# Altium footprint library Imported_Components.PcbLib: 32 footprints (part 2 of 2)
Each footprint in its own frame and in the unit in brackets; x right, y up, seen from the top. Pads: shape width x height; smd on the part's side, far side on the other; paste and mask are expansions set on the pad; w line width, h text height; cw(c..) or ccw(c..) is an arc to the next point about the centre after c.
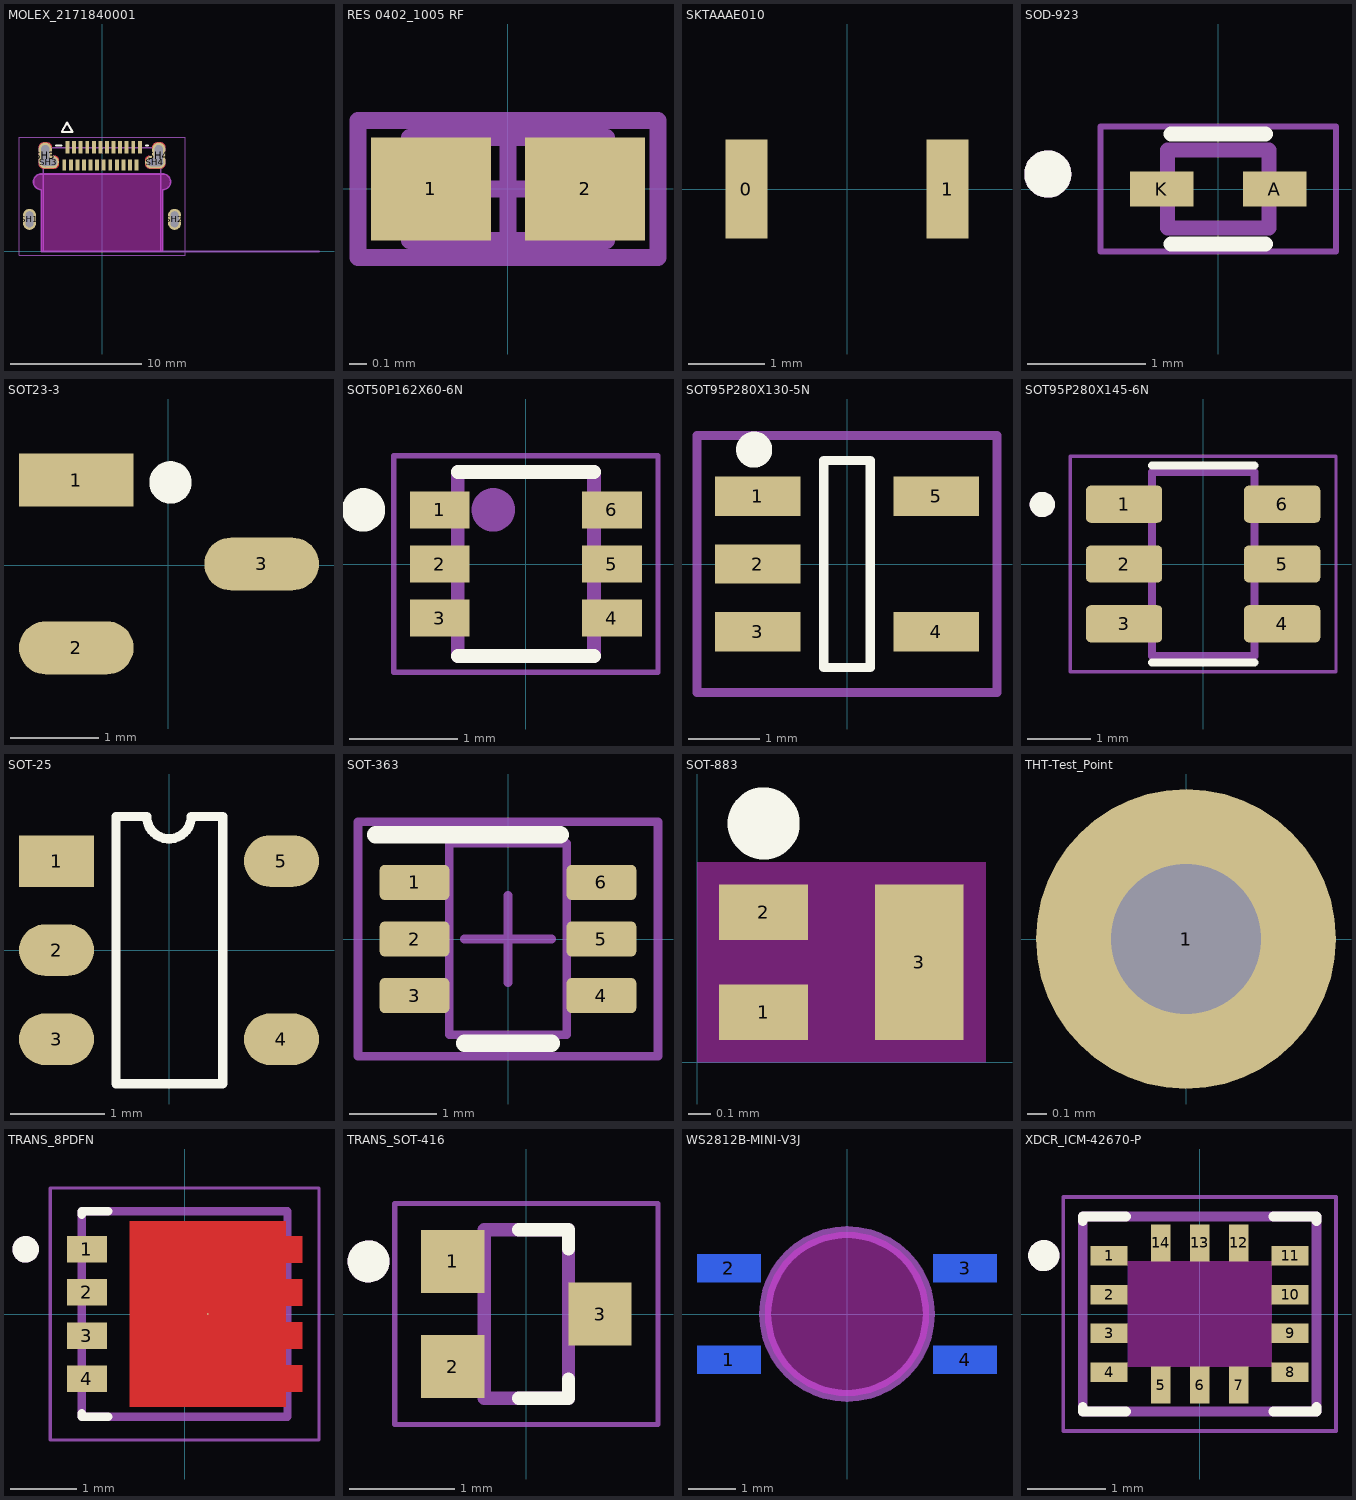
[diagram p1: the footprints below, top view; thin cyan lines are the x and y axes]

## MOLEX_2171840001 [mm]
height 3.16
pads (30):
  rect 0.298x0.95 smd mask+0.064: A1(-2.625,7.925) A2(-2.125,7.925) A3(-1.625,7.925) A4(-1.125,7.925) A5(-0.625,7.925) A6(-0.125,7.925) A7(0.375,7.925) A8(0.875,7.925) A9(1.375,7.925) A10(1.875,7.925) A11(2.375,7.925) A12(2.875,7.925)
  rect 0.298x0.85 smd mask+0.064: B1(2.625,6.575) B2(2.125,6.575) B3(1.625,6.575) B4(1.125,6.575) B5(0.625,6.575) B6(0.125,6.575) B7(-0.375,6.575) B8(-0.875,6.575) B9(-1.375,6.575) B10(-1.875,6.575) B11(-2.375,6.575) B12(-2.875,6.575)
  oval 1x1.6 hole 0.6 slot 1.2 at 90 deg mask+0.064: SH1(-5.52,2.45) SH2(5.52,2.45)
  oval 1x2 hole 0.6 slot 1.6 at 90 deg mask+0.064: SH3(-4.32,7.3) SH4(4.32,7.3)
  oval 1.54x1 hole 0.6 slot 1.2 at 0 deg mask+0.064: SH3(-4.052,6.808) SH4(4.048,6.797)
Top Layer:
  region: 183 vertices and 0 holes, not listed, extent 3.28,6.3 4.82,8.3
  region: 183 vertices and 0 holes, not listed, extent -4.82,6.3 -3.28,8.3
Bottom Layer:
  region: 183 vertices and 0 holes, not listed, extent -4.82,6.3 -3.28,8.3
  region: 183 vertices and 0 holes, not listed, extent 3.28,6.3 4.82,8.3
Top Overlay:
  lines w0.15: -3.507,8.05 -3.089,8.05 ; 3.338,8.05 3.507,8.05 ; -3.059,9.111 -2.659,9.811 -2.259,9.111 -3.059,9.111
Top Solder:
  drawing of 2 lines, arcs and shapes, not listed
Bottom Solder:
  drawing of 2 lines, arcs and shapes, not listed
Keep-Out Layer:
  board cut-out: 4.62,5.9 -4.62,5.9 -4.651,5.899 -4.683,5.897 -4.714,5.893 -4.745,5.887 -4.775,5.88 -4.805,5.871 -4.835,5.86 -4.864,5.848 -4.892,5.835 -4.92,5.82 -4.947,5.803 -4.973,5.785 -4.998,5.766 -5.021,5.746 -5.044,5.724 -5.066,5.701 -5.086,5.678 -5.105,5.653 -5.123,5.627 -5.14,5.6 -5.155,5.572 -5.168,5.544 -5.18,5.515 -5.191,5.485 -5.2,5.455 -5.207,5.425 -5.213,5.394 -5.217,5.363 -5.219,5.331 -5.22,5.3 -5.219,5.269 -5.217,5.237 -5.213,5.206 -5.207,5.175 -5.2,5.145 -5.191,5.115 -5.18,5.085 -5.168,5.056 -5.155,5.028 -5.14,5 -5.123,4.973 -5.105,4.947 -5.086,4.922 -5.066,4.899 -5.044,4.876 -5.021,4.854 -4.998,4.834 -4.973,4.815 -4.947,4.797 -4.92,4.78 -4.892,4.765 -4.864,4.752 -4.835,4.74 -4.805,4.729 -4.775,4.72 -4.745,4.713 -4.714,4.707 -4.683,4.703 -4.651,4.701 -4.62,4.7 -4.62,0 4.62,0 4.62,4.7 4.651,4.701 4.683,4.703 4.714,4.707 4.745,4.713 4.775,4.72 4.805,4.729 4.835,4.74 4.864,4.752 4.892,4.765 4.92,4.78 4.947,4.797 4.973,4.815 4.998,4.834 5.021,4.854 5.044,4.876 5.066,4.899 5.086,4.922 5.105,4.947 5.123,4.973 5.14,5 5.155,5.028 5.168,5.056 5.18,5.085 5.191,5.115 5.2,5.145 5.207,5.175 5.213,5.206 5.217,5.237 5.219,5.269 5.22,5.3 5.219,5.331 5.217,5.363 5.213,5.394 5.207,5.425 5.2,5.455 5.191,5.485 5.18,5.515 5.168,5.544 5.155,5.572 5.14,5.6 5.123,5.627 5.105,5.653 5.086,5.678 5.066,5.701 5.044,5.724 5.021,5.746 4.998,5.766 4.973,5.785 4.947,5.803 4.92,5.82 4.892,5.835 4.864,5.848 4.835,5.86 4.805,5.871 4.775,5.88 4.745,5.887 4.714,5.893 4.683,5.897 4.651,5.899
Mechanical 1:
  lines w0: -4.62,6.7 ccw(c-4.42,6.7) -4.42,6.5 -3.62,6.5 ccw(c-3.62,6.7) -3.42,6.7 -3.42,6.9 ccw(c-3.62,6.9) -3.62,7.1 -3.79,7.1 cw(c-3.79,7.33) -4.02,7.33 -4.02,7.9 ccw(c-4.22,7.9) -4.22,8.1 -4.42,8.1 ccw(c-4.42,7.9) -4.62,7.9 -4.62,6.7 ; 3.42,6.7 ccw(c3.62,6.7) 3.62,6.5 4.42,6.5 ccw(c4.42,6.7) 4.62,6.7 4.62,7.9 ccw(c4.42,7.9) 4.42,8.1 4.22,8.1 ccw(c4.22,7.9) 4.02,7.9 4.02,7.33 cw(c3.79,7.33) 3.79,7.1 3.62,7.1 ccw(c3.62,6.9) 3.42,6.9 3.42,6.7
Mechanical 2:
  text "'.Designator'" at 0,4.755 h0.7
Mechanical 12:
  text "PTH L-shaped Slot 1.2 +/- 0.05 X 1.6 +/- 0.05" at -6.25,12.186 h0.5
  text "PTH Slot 1.2 +/- 0.05 X 0.6 +/- 0.05" at -6.25,13.105 h0.5
Mechanical 13:
  lines w0.13: 16.51,0 4.62,0 ; -4.47,0 -4.62,0 -4.62,4.7 cw(c-4.62,5.3) -5.22,5.3 cw(c-4.62,5.3) -4.62,5.9 4.62,5.9 cw(c4.62,5.3) 5.22,5.3 cw(c4.62,5.3) 4.62,4.7 4.62,0 ; -4.47,0 -4.47,7.9 4.47,7.9 4.47,0 ; -4.47,0 4.47,0 ; 4.47,0 4.62,0 ; -3.059,9.111 -2.659,9.811 -2.259,9.111 -3.059,9.111
  text "BOARD CUTOUT" at -3.302,2.78 h0.61
  text "PCB EDGE" at 6.985,0.228 h1.27
Mechanical 15:
  lines w0.01: -6.32,-0.3 -6.32,8.7 6.32,8.7 6.32,-0.3 -6.32,-0.3
3D body "(USB-C)2171840001.step": height 2.36, standoff -0.8, extent -5.67,0 5.67,8.1

## RES 0402_1005 RF [mm] "Chip Resistor, 2-Leads, Body 1.0x0.5mm, IPC High Density"
height 0.4
pads (2):
  rect 0.7x0.6 smd: 1(-0.45,0) 2(0.45,0)
Mechanical 13:
  lines w0.1: -0.575,-0.3 0.575,-0.3 0.575,0.3 -0.575,0.3 -0.575,-0.3
Mechanical 15:
  lines w0.1: -0.3,0 0.3,0 ; 0,-0.3 0,0.3 ; -0.875,-0.4 0.875,-0.4 0.875,0.4 -0.875,0.4 -0.875,-0.4
3D body "0402 resistor.STEP": height 0.35, standoff 0, extent -0.5,-0.25 0.5,0.25

## SKTAAAE010 [mm] "1.6mm 0.53mm Round Button 50mA Standing paste 2.6mm SPST 12V SMD Tactile Switches ROHS"
pads (2):
  rect 0.55x1.3 smd: 0(-1.325,0) 1(1.325,0)
3D body "SKTAAAE010.STEP": height 0.53, standoff 0, extent -1.5,-0.855 1.5,0.805

## SOD-923 [mm]
pads (2):
  rect 0.54x0.3 smd: A(0.48,0) K(-0.48,0)
Top Overlay:
  circle w0.2: c-1.446,0.127 r0.1
  lines w0.127: -0.4,-0.465 0.4,-0.465 ; -0.4,0.465 0.4,0.465
Mechanical 13:
  circle w0.2: c-1.446,0.127 r0.1
  lines w0.127: -0.43,-0.33 -0.43,0.33 0.43,0.33 0.43,-0.33 -0.43,-0.33
Mechanical 15:
  lines w0.05: -1,-0.53 -1,0.53 1,0.53 1,-0.53 -1,-0.53
3D body "SOD-923.step": height 0.4, standoff 0, extent -0.5,-0.3 0.5,0.3

## SOT23-3 [mm]
pads (3):
  rect 1.3x0.6 smd: 1(-1.041,0.965)
  oval 1.3x0.6 smd: 2(-1.041,-0.935) 3(1.059,0.015)
Top Overlay:
  circle w0.254: c0.025,0.94 r0.114
3D body "DRV5055A1QDBZR.step": height 1.12, standoff 0, extent -1.185,-1.46 1.185,1.46

## SOT50P162X60-6N [mm]
pads (6):
  rect 0.55x0.34 smd: 1(-0.795,0.5) 2(-0.795,0) 3(-0.795,-0.5) 4(0.795,-0.5) 5(0.795,0) 6(0.795,0.5)
Top Overlay:
  circle w0.3: c-1.5,0.5 r0.05
  lines w0.127: -0.63,-0.85 0.63,-0.85 ; -0.63,0.85 0.63,0.85
Mechanical 13:
  circle w0.3: c-0.3,0.5 r0.05
  lines w0.127: -0.63,-0.85 -0.63,0.85 0.63,0.85 0.63,-0.85 -0.63,-0.85
Mechanical 15:
  lines w0.05: -1.22,-1 -1.22,1 1.22,1 1.22,-1 -1.22,-1
3D body "SOT-563_DIO.step": height 0.61, standoff 0, extent -0.851,-0.851 0.851,0.851

## SOT95P280X130-5N [mm]
pads (5):
  rect 1.2x0.55 smd: 1(-1.25,0.95) 2(-1.25,0) 3(-1.25,-0.95) 4(1.25,-0.95) 5(1.25,0.95)
Top Overlay:
  circle w0.305: c-1.3,1.6 r0.1
  lines w0.127: -0.325,-1.45 0.325,-1.45 0.325,1.45 -0.325,1.45 -0.325,-1.45
Mechanical 15:
  lines w0.127: -2.1,-1.8 2.1,-1.8 2.1,1.8 -2.1,1.8 -2.1,-1.8
3D body "XC6802A42XMR-G.step": height 1.3, standoff 0, extent -1.4,-1.45 1.4,1.45

## SOT95P280X145-6N [mm]
pads (6):
  rrect25% 1.21x0.59 smd: 1(-1.255,0.95) 2(-1.255,0) 3(-1.255,-0.95) 4(1.255,-0.95) 5(1.255,0) 6(1.255,0.95)
Top Overlay:
  circle w0.2: c-2.555,0.945 r0.1
  lines w0.127: -0.813,-1.565 0.813,-1.565 ; -0.813,1.565 0.813,1.565
Mechanical 13:
  circle w0.2: c-2.555,0.945 r0.1
  lines w0.127: -0.813,-1.462 -0.813,1.462 0.813,1.462 0.813,-1.462 -0.813,-1.462
Mechanical 15:
  lines w0.05: -2.11,-1.713 2.11,-1.713 2.11,1.713 -2.11,1.713 -2.11,-1.713
3D body "step_temp.STEP": height 1.44, standoff -0.01, extent -1.4,-1.462 1.4,1.462

## SOT-25 [mm]
pads (5):
  rect 0.8x0.55 smd: 1(-1.2,0.95)
  oval 0.8x0.55 smd: 2(-1.2,0) 3(-1.2,-0.95) 4(1.2,-0.95) 5(1.2,0.95)
Top Overlay:
  lines w0.1: 0.573,1.425 0.573,0.713 0.573,-0.712 0.573,-1.425 -0.565,-1.425 -0.565,1.425 -0.238,1.425 ccw(c0,1.425) 0.237,1.425 0.575,1.425
3D body "SOT-25_TOR.step": height 1.3, standoff 0, extent -1.397,-1.448 1.397,1.448

## SOT-363 [mm]
height 1
pads (6):
  rrect25% 0.8x0.4 smd: 1(-1.075,0.65) 2(-1.075,0) 3(-1.075,-0.65) 4(1.075,-0.65) 5(1.075,0) 6(1.075,0.65)
Top Overlay:
  lines w0.2: -1.524,1.2 0.6,1.2 ; -0.5,-1.2 0.5,-1.2
Mechanical 12:
  lines w0.1: -0.675,-1.1 0.675,-1.1 0.675,1.1 -0.675,1.1 -0.675,-1.1
Mechanical 15:
  lines w0.1: -0.5,0 0.5,0 ; 0,-0.5 0,0.5 ; -1.725,-1.35 1.725,-1.35 1.725,1.35 -1.725,1.35 -1.725,-1.35
3D body "p206_SOT-363.stp": height 0.88, standoff -0.02, extent -1.024,-1.003 1.076,0.997

## SOT-883 [mm]
pads (3):
  rect 0.4x0.25 smd paste-2539.97 mask-2539.97: 1(0.3,0.225) 2(0.3,0.675)
  rect 0.4x0.7 smd paste-2539.97 mask-2539.97: 3(1,0.45)
Top Overlay:
  circle w0.254: c0.3,1.075 r0.035
Top Paste:
  region: 0.15,0.1 0.15,0.35 0.45,0.35 0.45,0.1
  region: 0.15,0.55 0.15,0.8 0.45,0.8 0.45,0.55
  region: 0.85,0.15 0.85,0.75 1.15,0.75 1.15,0.15
Top Solder:
  region: 0.05,0.05 0.05,0.4 0.55,0.4 0.55,0.05
  region: 0.05,0.5 0.05,0.85 0.55,0.85 0.55,0.5
  region: 0.75,0.05 0.75,0.85 1.25,0.85 1.25,0.05
Keep-Out Layer:
  region: 0,0 1.3,0 1.3,0.9 0,0.9
3D body "PMZ350UPEYL.step": height 0.5, standoff 0, extent 0.132,0.158 1.118,0.742

## THT-Test_Point [mil]
pads (1):
  round 60 hole 30: 1(0,0)

## TRANS_8PDFN [mm]
height 0.8
pads (5):
  rect 0.6x0.4 smd: 1(-1.475,0.975) 2(-1.475,0.325) 3(-1.475,-0.325) 4(-1.475,-0.975)
  round 0.025 smd paste-1 mask+0: 5_8(0.35,0)
Top Layer:
  region: 1.525,1.175 1.775,1.175 1.775,0.775 1.525,0.775 1.525,0.525 1.775,0.525 1.775,0.125 1.525,0.125 1.525,-0.125 1.775,-0.125 1.775,-0.525 1.525,-0.525 1.525,-0.775 1.775,-0.775 1.775,-1.175 1.525,-1.175 1.525,-1.4 -0.825,-1.4 -0.825,1.4 1.525,1.4
Top Overlay:
  circle w0.2: c-2.398,0.975 r0.1
  lines w0.127: -1.55,-1.495 -1.55,-1.55 -1.15,-1.55 ; -1.55,1.495 -1.55,1.55 -1.15,1.55
Top Paste:
  region: 1.775,-1.175 1.525,-1.175 1.525,-0.775 1.775,-0.775
  region: 1.775,-0.525 1.525,-0.525 1.525,-0.125 1.775,-0.125
  region: 1.775,0.125 1.525,0.125 1.525,0.525 1.775,0.525
  region: 1.775,0.775 1.525,0.775 1.525,1.175 1.775,1.175
  region: 1.215,-1.085 0.505,-1.085 0.505,-0.155 1.215,-0.155
  region: 0.195,-1.085 -0.515,-1.085 -0.515,-0.155 0.195,-0.155
  region: 0.195,0.155 -0.515,0.155 -0.515,1.085 0.195,1.085
  region: 1.215,0.155 0.505,0.155 0.505,1.085 1.215,1.085
Top Solder:
  region: 1.625,1.275 1.875,1.275 1.875,0.675 1.625,0.675 1.625,0.625 1.875,0.625 1.875,0.025 1.625,0.025 1.625,-0.025 1.875,-0.025 1.875,-0.625 1.625,-0.625 1.625,-0.675 1.875,-0.675 1.875,-1.275 1.625,-1.275 1.625,-1.5 -0.925,-1.5 -0.925,1.5 1.625,1.5
Mechanical 13:
  circle w0.2: c-2.398,0.975 r0.1
  lines w0.127: -1.55,-1.55 1.55,-1.55 1.55,1.55 -1.55,1.55 -1.55,-1.55
Mechanical 15:
  lines w0.05: -2.025,-1.9 2.025,-1.9 2.025,1.9 -2.025,1.9 -2.025,-1.9
3D body "step_temp.STEP": height 0.8, standoff 0, extent -1.675,-1.65 1.675,1.65

## TRANS_SOT-416 [mm]
pads (3):
  rect 0.6x0.6 smd paste-1: 1(-0.7,0.5) 2(-0.7,-0.5) 3(0.7,0)
Top Overlay:
  circle w0.2: c-1.5,0.5 r0.1
  lines w0.127: -0.073,-0.8 0.4,-0.8 0.4,-0.62 ; -0.073,0.8 0.4,0.8 0.4,0.62
Mechanical 13:
  circle w0.2: c-1.5,0.5 r0.1
  lines w0.127: -0.4,-0.8 -0.4,0.8 0.4,0.8 0.4,-0.8 -0.4,-0.8
Mechanical 15:
  lines w0.05: -1.25,-1.05 -1.25,1.05 1.25,1.05 1.25,-1.05 -1.25,-1.05
3D body "SOT-416.step": height 0.8, standoff 0, extent -0.9,-0.8 0.9,0.8

## WS2812B-MINI-V3J [mm]
pads (4):
  rect 1.35x0.6 smd far side mask+0.038: 1(-2.489,-0.965) 2(-2.489,0.965) 3(2.489,0.965) 4(2.489,-0.965)
Keep-Out Layer:
  board cut-out: 0,-1.727 -0.17,-1.727 -0.504,-1.66 -0.818,-1.53 -1.101,-1.341 -1.341,-1.101 -1.53,-0.818 -1.66,-0.504 -1.727,-0.17 -1.727,0 -1.727,0.17 -1.66,0.504 -1.53,0.818 -1.341,1.101 -1.101,1.341 -0.818,1.53 -0.504,1.66 -0.17,1.727 0,1.727 0.17,1.727 0.504,1.66 0.818,1.53 1.101,1.341 1.341,1.101 1.53,0.818 1.66,0.504 1.727,0.17 1.727,0 1.727,-0.17 1.66,-0.504 1.53,-0.818 1.341,-1.101 1.101,-1.341 0.818,-1.53 0.504,-1.66 0.17,-1.727
Mechanical 1:
  circle w0.254: c0,0 r1.727

## XDCR_ICM-42670-P [mm] "Accelerometer, Gyroscope, Temperature, 6 Axis Sensor I2C, SPI Output"
height 0.81
pads (14):
  rect 0.475x0.25 smd paste-1 mask+0.05: 1(-1.162,0.75) 2(-1.162,0.25) 3(-1.162,-0.25) 4(-1.162,-0.75) 8(1.162,-0.75) 9(1.162,-0.25) 10(1.162,0.25) 11(1.162,0.75)
  rect 0.25x0.475 smd paste-1 mask+0.05: 5(-0.5,-0.913) 6(0,-0.913) 7(0.5,-0.913) 12(0.5,0.913) 13(0,0.913) 14(-0.5,0.913)
Top Overlay:
  circle w0.2: c-2,0.75 r0.1
  lines w0.127: -1.5,-1.195 -1.5,-1.25 -0.945,-1.25 ; -1.5,1.195 -1.5,1.25 -0.945,1.25 ; 0.945,-1.25 1.5,-1.25 1.5,-1.195 ; 0.945,1.25 1.5,1.25 1.5,1.195
Top Paste:
  region: -0.937,0.131 -1.388,0.131 -1.388,0.369 -0.937,0.369
  region: -0.937,-0.369 -1.388,-0.369 -1.388,-0.131 -0.937,-0.131
  region: -0.937,-0.869 -1.388,-0.869 -1.388,-0.631 -0.937,-0.631
  region: -0.937,0.631 -1.388,0.631 -1.388,0.869 -0.937,0.869
  region: 1.388,0.131 0.937,0.131 0.937,0.369 1.388,0.369
  region: 1.388,-0.369 0.937,-0.369 0.937,-0.131 1.388,-0.131
  region: 1.388,-0.869 0.937,-0.869 0.937,-0.631 1.388,-0.631
  region: 1.388,0.631 0.937,0.631 0.937,0.869 1.388,0.869
  region: 0.119,0.687 -0.119,0.687 -0.119,1.138 0.119,1.138
  region: 0.619,0.687 0.381,0.687 0.381,1.138 0.619,1.138
  region: -0.381,0.687 -0.619,0.687 -0.619,1.138 -0.381,1.138
  region: 0.119,-1.138 -0.119,-1.138 -0.119,-0.687 0.119,-0.687
  region: 0.619,-1.138 0.381,-1.138 0.381,-0.687 0.619,-0.687
  region: -0.381,-1.138 -0.619,-1.138 -0.619,-0.687 -0.381,-0.687
Keep-Out Layer:
  region: 0.925,-0.675 -0.925,-0.675 -0.925,0.675 0.925,0.675
Mechanical 13:
  circle w0.2: c-2,0.75 r0.1
  lines w0.127: -1.5,-1.25 1.5,-1.25 1.5,1.25 -1.5,1.25 -1.5,-1.25
Mechanical 15:
  lines w0.05: -1.75,-1.5 -1.75,1.5 1.75,1.5 1.75,-1.5 -1.75,-1.5
3D body "step_temp.STEP": height 0.81, standoff 0, extent -1.5,-1.25 1.5,1.25